# EAGLE library part S2U_DAUGHTER (library S2U_lib)
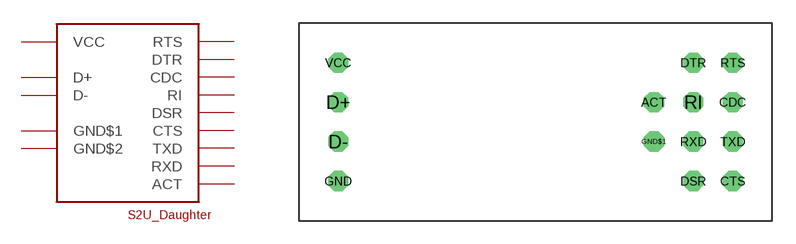
[diagram p0: symbol with the pads of S2U_DAUGHTER_HEADERS; footprint S2U_DAUGHTER_HEADERS]

Designator prefix -

## S2U_DAUGHTER  [S2U_DAUGHTER_HEADERS]
ACT  ACT
CDC  CDC
CTS  CTS
D+  D+
D-  D-
DSR  DSR
DTR  DTR
GND  GND$1
GND$1  GND$2
RI  RI
RTS  RTS
RXD  RXD
TXD  TXD
VCC  VCC

## Footprint S2U_DAUGHTER_HEADERS (pad centres in mm)
drill 0.8 octagon: ACT 8.89,1.27; CDC 13.97,1.27; CTS 13.97,-3.81; D+ -11.43,1.27; D- -11.43,-1.27; DSR 11.43,-3.81; DTR 11.43,3.81; GND -11.43,-3.81; GND$1 8.89,-1.27; RI 11.43,1.27; RTS 13.97,3.81; RXD 11.43,-1.27; TXD 13.97,-1.27; VCC -11.43,3.81